# Altium schematic symbol library D_Passives.SchLib: 9 symbols
Pins are listed as number, name and electrical type; pins without a type are passive.

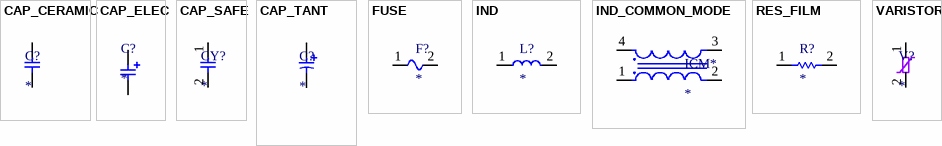
[diagram p0: symbols CAP_CERAMIC to VARISTOR]

## CAP_CERAMIC
designator C?
VALUE: *; MANUFACTURER: *; MANUFACTURER CODE: *; PROVIDER: *; PROVIDER CODE: *; ComponentLink1Description: DATASHEET; ComponentLink1URL: *; ComponentLink2Description: PROVIDER LINK; ComponentLink2URL: *; VOLTAGE: *; MIN TEMPERATURE: *; MAX TEMPERATURE: *; ESR: *; ESL: *; TOLERANCE: *; Ripple Current: *; Current Leakage: *
footprint Plugin,P=7.5mm (THT de 7.5 mm de separación con 1.2 mm de hueco)
footprint CAP_CER_0603 (Capacitor Cerámico 0603)
footprint CAP_CER_0805
footprint CAP_CER_1206
pins: 1, 2

## CAP_ELEC
designator C?
MANUFACTURER: *; MANUFACTURER CODE: *; PROVIDER: *; PROVIDER CODE: *; ComponentLink1Description: PROVIDER LINK; ComponentLink1URL: *; ComponentLink2Description: DATASHEET; ComponentLink2URL: *; CAPACITANCE: *; OP TEMPERATURE: *; LIFETIME: *; VOLTAGE RATING: *; RIPPLE CURRENT: *; ESR: *; TOLERANCE: *
footprint CAP_ELEC-D6.3xL5.8
pins: 1, 2

## CAP_SAFE
designator CY?
VALUE: *; MANUFACTURER: *; MANUFACTURER CODE: *; PROVIDER: *; PROVIDER CODE: *; ComponentLink1Description: PROVIDER LINK; ComponentLink1URL: *; ComponentLink2Description: DATASHEET; ComponentLink2URL: *; VOLTAGE AC: *
footprint Plugin,P=7.5mm (THT de 7.5 mm de separación con 1.2 mm de hueco)
pins: 1, 2

## CAP_TANT
designator C?
MANUFACTURER: *; MANUFACTURER CODE: *; PROVIDER: *; PROVIDER CODE: *; ComponentLink1Description: PROVIDER LINK; ComponentLink1URL: *; ComponentLink2Description: DATASHEET; ComponentLink2URL: *; VALUE: *; OP TEMP: *; ESR: *; TOLERANCE: *
footprint CAP_TANT_6032
pins: 1, 2

## FUSE
designator F?
Manufacturer: *; Manufacturer code: *; Provider: *; Provider Code: *; ComponentLink1Description: Datasheet; ComponentLink1URL: *; ComponentLink2Description: Provider Link; ComponentLink2URL: *
footprint FUSE_SMD-6.3x2.7mm
pins: 1, 2

## IND
designator L?
MANUFACTURER: *; MANUFACTURER CODE: *; PROVIDER: *; PROVIDER CODE: *; ComponentLink1Description: PROVIDER LINK; ComponentLink1URL: *; ComponentLink2Description: DATASHEET; ComponentLink2URL: *; INDUCTANCE: *; TOLERANCE: *; F SELF RESONANT: *; CURRENT SATURATION: *; DC RESISTANCE: *
footprint IND_0603 (0603)
pins: 1, 2

## IND_COMMON_MODE
designator ICM*
VALUE: *; MANUFACTURER: *; MANUFACTURER CODE: *; PROVIDER: *; PROVIDER CODE: *; ComponentLink1Description: PROVIDER LINK; ComponentLink1URL: *; ComponentLink2Description: DATASHEET; ComponentLink2URL: *
footprint PLUGIN, 10x4.5mm
pins: 1, 2, 3, 4

## RES_FILM
designator R?
MANUFACTURER: *; MANUFACTURER CODE: *; PROVIDER: *; PROVIDER CODE: *; ComponentLink1Description: PROVIDER LINK; ComponentLink1URL: *; ComponentLink2Description: DATASHEET; ComponentLink2URL: *; VALUE: *; MATERIAL: *; POWER: *; MAX TEMP: *; MIN TEMP: *; MAX VOLTAGE: *; ESL: *; THERMAL OEFFICIENT: *; TOLERANCE: *
footprint RES_FILM_0603
footprint RES_FILM_0805
footprint RES_FILM_1206
pins: 1, 2

## VARISTOR
designator V?
Manufacturer: *; Manufacturer Code: *; Provider: *; Provider Code: *; ComponentLink1Description: Provider Link; ComponentLink1URL: *; ComponentLink2Description: Datasheet; ComponentLink2URL: *
footprint Plugin,P=7.5mm (THT de 7.5 mm de separación con 1.2 mm de hueco)
pins: 1, 2